# Altium schematic symbol library mvsilicon.SchLib: 1 symbol
Pins are listed as number, name and electrical type; pins without a type are passive.

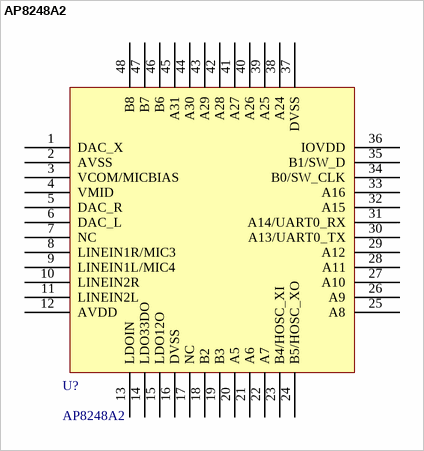
[diagram p0: symbol AP8248A2]

## AP8248A2
designator U?
footprint LQFP-48_L (Thin QFP, 48-Leads, Body 7x7mm, Pitch 0.5mm, IPC High Density)
pins: 1 DAC_X, 2 AVSS, 3 VCOM/MICBIAS, 4 VMID, 5 DAC_R, 6 DAC_L, 7 NC, 8 LINEIN1R/MIC3, 9 LINEIN1L/MIC4, 10 LINEIN2R, 11 LINEIN2L, 12 AVDD, 13 LDOIN, 14 LDO33DO, 15 LDO12O, 16 DVSS, 17 NC, 18 B2, 19 B3, 20 A5, 21 A6, 22 A7, 23 B4/HOSC_XI, 24 B5/HOSC_XO, 25 A8, 26 A9, 27 A10, 28 A11, 29 A12, 30 A13/UART0_TX, 31 A14/UART0_RX, 32 A15, 33 A16, 34 B0/SW_CLK, 35 B1/SW_D, 36 IOVDD, 37 DVSS, 38 A24, 39 A25, 40 A26, 41 A27, 42 A28, 43 A29, 44 A30, 45 A31, 46 B6, 47 B7, 48 B8